# Altium footprint library Copy of Amazon OLED Display Module.PcbLib: 1 footprints
Each footprint in its own frame and in the unit in brackets; x right, y up, seen from the top. Pads: shape width x height; smd on the part's side, far side on the other; paste and mask are expansions set on the pad; w line width, h text height; cw(c..) or ccw(c..) is an arc to the next point about the centre after c.
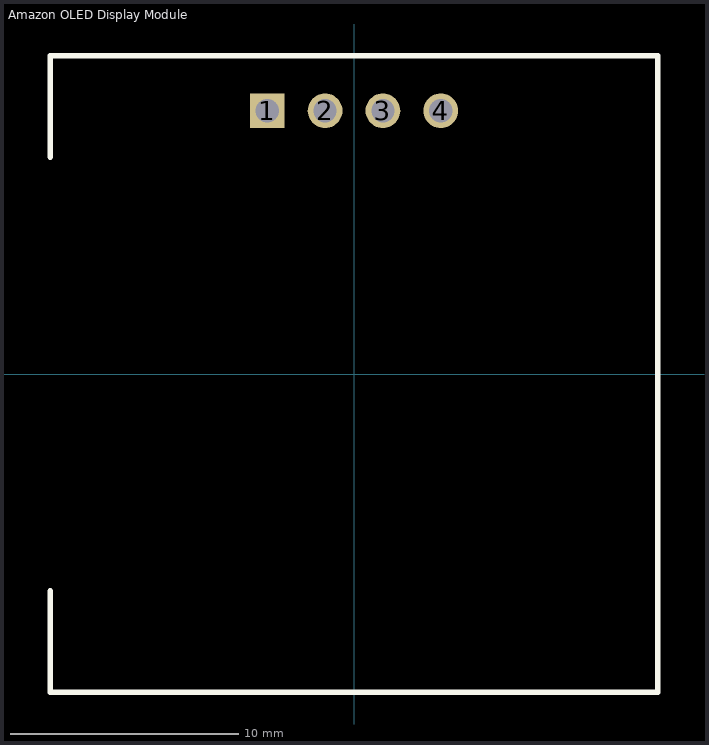
[diagram p0: the footprint, top view; thin cyan lines are the x and y axes]

## Amazon OLED Display Module [mil] "Hosyond 0.96 Inch OLED I2C Display Module 128x64 Pixel OLED Display"
pads (4):
  rect 60x60 hole 40: 1(-150,455)
  round 60 hole 40: 2(-50,455) 3(50,455) 4(150,455)
Top Overlay:
  lines w10: -525,-375 -525,-550 525,-550 525,550 -525,550 -525,375
3D body "OLED-128x64-0.96.step": height 198.13, standoff -228.87, extent -525.59,-548.43 525.59,548.43